# EAGLE library part LT1308 (library linear-technology)
Micropower, fixed frequency step-up DC/DC converter that operate over a 1V to 10V input voltage range.
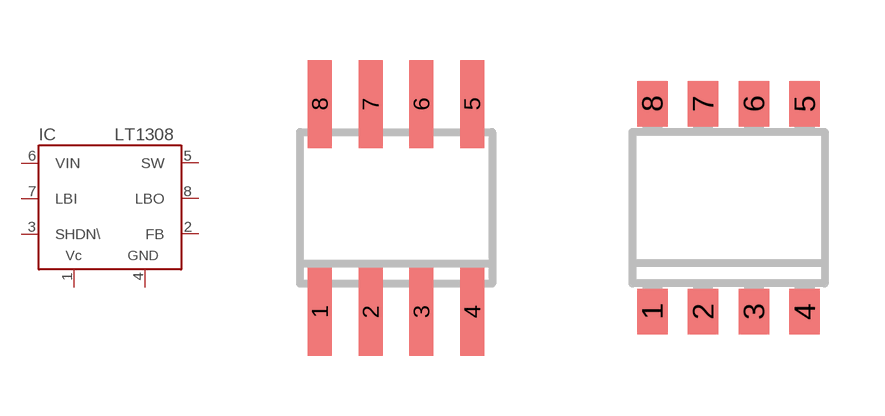
[diagram p3: symbol with the pads of SOIC8; footprints SOIC8, SOIC8B]

Designator prefix IC

## LT1308S8  [SOIC8]
1  VC  out
2  FB  in
3  SHDN\  in
4  GND  pwr
5  SW  out
6  VIN  in
7  LBI  in
8  LBO  out

## LT1308B  [SOIC8B]
Pads as for SOIC8

## Footprint SOIC8 (pad centres in mm)
Small Outline IC
smd 0.6 x 2.2: 1 -1.905,-2.6; 2 -0.635,-2.6; 3 0.635,-2.6; 4 1.905,-2.6; 5 1.905,2.6; 6 0.635,2.6; 7 -0.635,2.6; 8 -1.905,2.6

## Footprint SOIC8B (pad centres in mm)
SOIC8 package
smd 0.762 x 1.143: 1 -1.905,-2.6; 2 -0.635,-2.6; 3 0.635,-2.6; 4 1.905,-2.6; 5 1.905,2.6; 6 0.635,2.6; 7 -0.635,2.6; 8 -1.905,2.6